# Altium schematic symbol library Diode_FR207.SchLib: 1 symbol
Pins are listed as number, name and electrical type; pins without a type are passive.

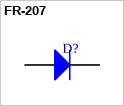
[diagram p0: symbol FR-207]

## FR-207
designator D?  (value not drawn)
FR207
footprint FR207
pins: 1 K, 2 A